# Altium footprint library Connector_Molex_Milligrid.PcbLib: 55 footprints (part 3 of 4)
Each footprint in its own frame and in the unit in brackets; x right, y up, seen from the top. Pads: shape width x height; smd on the part's side, far side on the other; paste and mask are expansions set on the pad; w line width, h text height; cw(c..) or ccw(c..) is an arc to the next point about the centre after c.
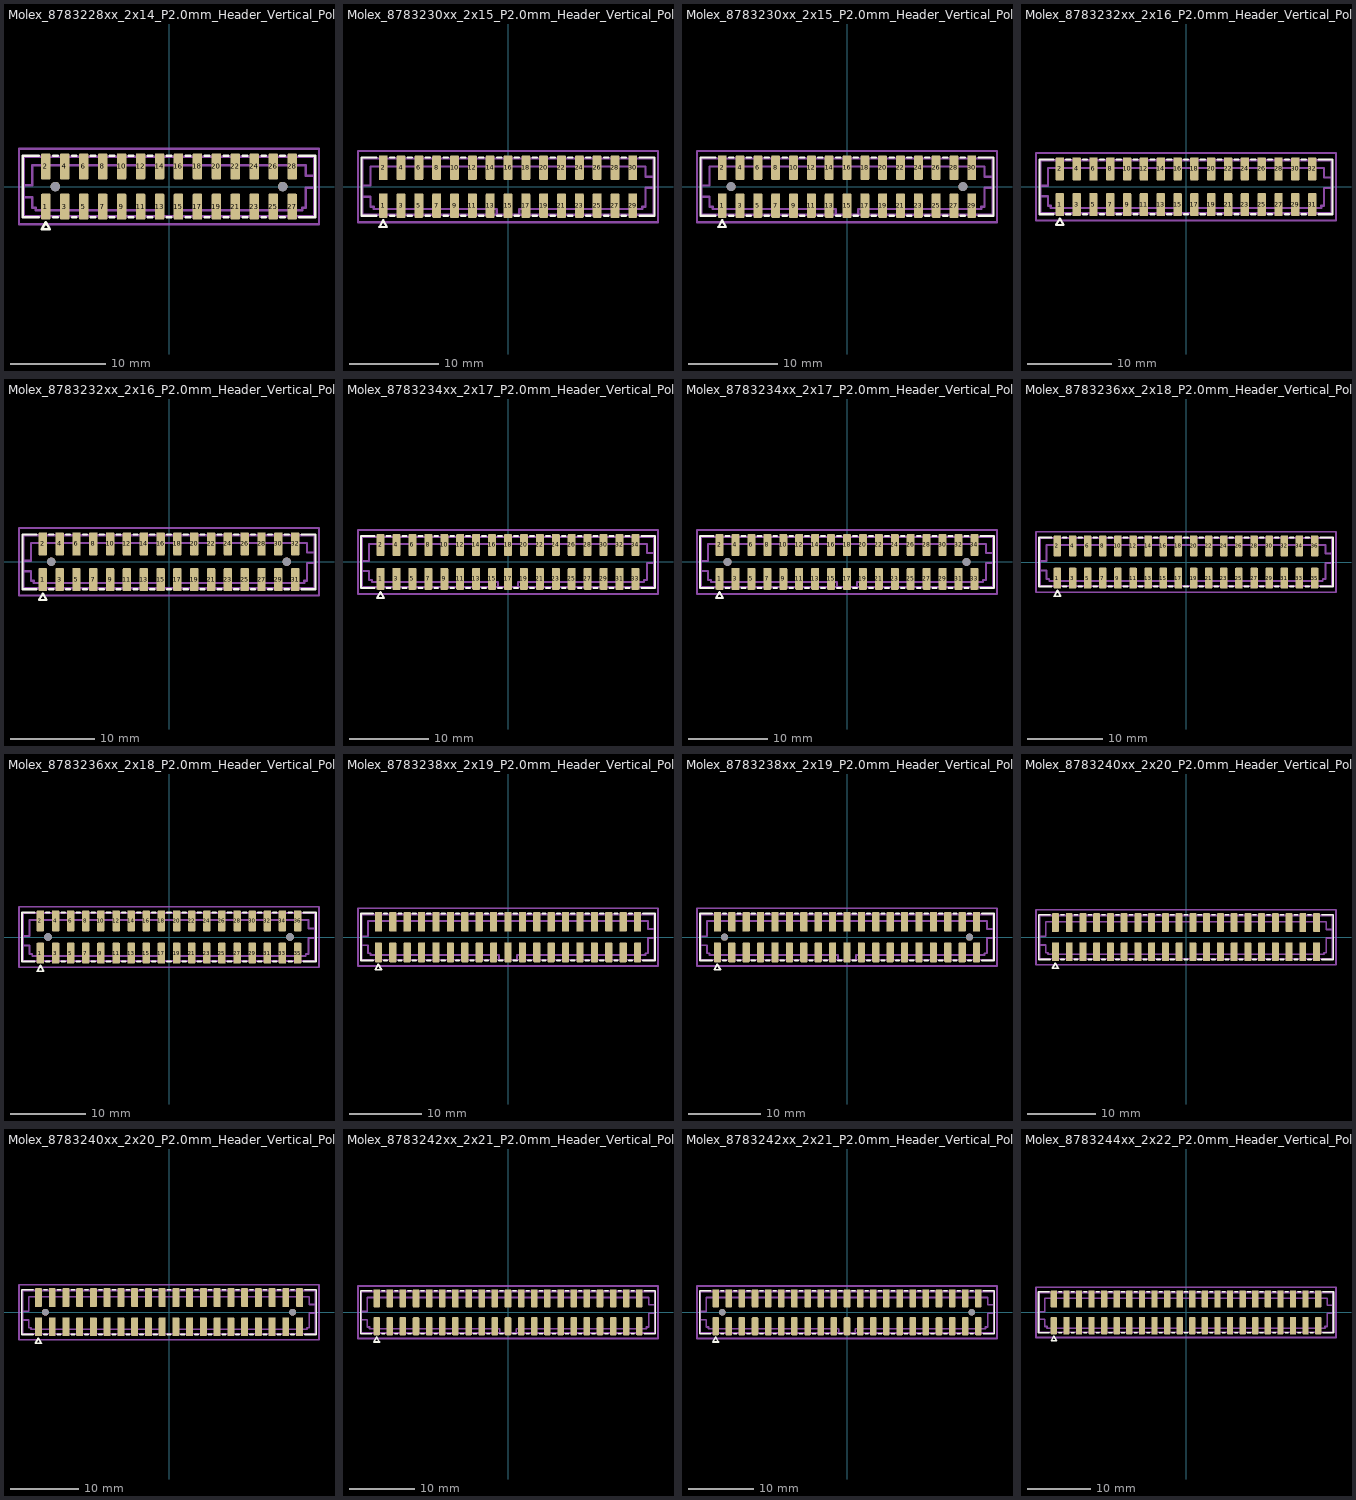
[diagram p2: the footprints below, top view; thin cyan lines are the x and y axes]

## Molex_8783228xx_2x14_P2.0mm_Header_Vertical_Polarized_MountingPegs [mm]
pads (30):
  rrect25% 1x2.75 smd: 1(-13,-2.125) 2(-13,2.125) 3(-11,-2.125) 4(-11,2.125) 5(-9,-2.125) 6(-9,2.125) 7(-7,-2.125) 8(-7,2.125) 9(-5,-2.125) 10(-5,2.125) 11(-3,-2.125) 12(-3,2.125) 13(-1,-2.125) 14(-1,2.125) 15(1,-2.125) 16(1,2.125) 17(3,-2.125) 18(3,2.125) 19(5,-2.125) 20(5,2.125) 21(7,-2.125) 22(7,2.125) 23(9,-2.125) 24(9,2.125) 25(11,-2.125) 26(11,2.125) 27(13,-2.125) 28(13,2.125)
  round 1 hole 1: Un1(-12,0) Un2(12,0)
F.SilkS:
  lines w0.254: -13.76,-3.26 -15.435,-3.26 -15.435,3.26 -13.76,3.26 ; -12.24,-3.26 -11.76,-3.26 ; -12.24,3.26 -11.76,3.26 ; -10.24,-3.26 -9.76,-3.26 ; -10.24,3.26 -9.76,3.26 ; -8.24,-3.26 -7.76,-3.26 ; -8.24,3.26 -7.76,3.26 ; -6.24,-3.26 -5.76,-3.26 ; -6.24,3.26 -5.76,3.26 ; -4.24,-3.26 -3.76,-3.26 ; -4.24,3.26 -3.76,3.26 ; -2.24,-3.26 -1.76,-3.26 ; -2.24,3.26 -1.76,3.26 ; -0.24,-3.26 0.24,-3.26 ; -0.24,3.26 0.24,3.26 ; 1.76,-3.26 2.24,-3.26 ; 1.76,3.26 2.24,3.26 ; 3.76,-3.26 4.24,-3.26 ; 3.76,3.26 4.24,3.26 ; 5.76,-3.26 6.24,-3.26 ; 5.76,3.26 6.24,3.26 ; 7.76,-3.26 8.24,-3.26 ; 7.76,3.26 8.24,3.26 ; 9.76,-3.26 10.24,-3.26 ; 9.76,3.26 10.24,3.26 ; 11.76,-3.26 12.24,-3.26 ; 11.76,3.26 12.24,3.26 ; 13.76,-3.26 15.435,-3.26 15.435,3.26 13.76,3.26 ; -13.433,-4.525 -12.567,-4.525 -13,-3.775 -13.433,-4.525
Top Assembly:
  lines w0.254: -15.325,-1.125 -14.425,-1.125 -14.425,-2.25 -14.075,-2.25 -14.075,-2.5 -1.25,-2.5 -1.25,-3.15 ; -15.325,0.125 -14.425,0.125 -14.425,2.25 14.425,2.25 14.425,1.125 15.325,1.125 ; -13.325,-3.15 -13,-2.5 -12.675,-3.15 ; 1.25,-3.15 1.25,-2.5 14.075,-2.5 14.075,-2.25 14.425,-2.25 14.425,-0.125 15.325,-0.125 ; -15.325,-3.15 15.325,-3.15 15.325,3.15 -15.325,3.15 -15.325,-3.15
  text "'.Designator'" at -4.047,-0.84 h1
Top Courtyard:
  lines w0.254: -15.83,-4 15.83,-4 15.83,4 -15.83,4 -15.83,-4
Top Designator:
  text ".Designator" at -7.618,-0.77 h1.52

## Molex_8783230xx_2x15_P2.0mm_Header_Vertical_Polarized [mm]
pads (30):
  rrect25% 1x2.75 smd: 1(-14,-2.125) 2(-14,2.125) 3(-12,-2.125) 4(-12,2.125) 5(-10,-2.125) 6(-10,2.125) 7(-8,-2.125) 8(-8,2.125) 9(-6,-2.125) 10(-6,2.125) 11(-4,-2.125) 12(-4,2.125) 13(-2,-2.125) 14(-2,2.125) 15(0,-2.125) 16(0,2.125) 17(2,-2.125) 18(2,2.125) 19(4,-2.125) 20(4,2.125) 21(6,-2.125) 22(6,2.125) 23(8,-2.125) 24(8,2.125) 25(10,-2.125) 26(10,2.125) 27(12,-2.125) 28(12,2.125) 29(14,-2.125) 30(14,2.125)
F.SilkS:
  lines w0.254: -14.76,-3.26 -16.435,-3.26 -16.435,3.26 -14.76,3.26 ; -13.24,-3.26 -12.76,-3.26 ; -13.24,3.26 -12.76,3.26 ; -11.24,-3.26 -10.76,-3.26 ; -11.24,3.26 -10.76,3.26 ; -9.24,-3.26 -8.76,-3.26 ; -9.24,3.26 -8.76,3.26 ; -7.24,-3.26 -6.76,-3.26 ; -7.24,3.26 -6.76,3.26 ; -5.24,-3.26 -4.76,-3.26 ; -5.24,3.26 -4.76,3.26 ; -3.24,-3.26 -2.76,-3.26 ; -3.24,3.26 -2.76,3.26 ; -1.24,-3.26 -0.76,-3.26 ; -1.24,3.26 -0.76,3.26 ; 0.76,-3.26 1.24,-3.26 ; 0.76,3.26 1.24,3.26 ; 2.76,-3.26 3.24,-3.26 ; 2.76,3.26 3.24,3.26 ; 4.76,-3.26 5.24,-3.26 ; 4.76,3.26 5.24,3.26 ; 6.76,-3.26 7.24,-3.26 ; 6.76,3.26 7.24,3.26 ; 8.76,-3.26 9.24,-3.26 ; 8.76,3.26 9.24,3.26 ; 10.76,-3.26 11.24,-3.26 ; 10.76,3.26 11.24,3.26 ; 12.76,-3.26 13.24,-3.26 ; 12.76,3.26 13.24,3.26 ; 14.76,-3.26 16.435,-3.26 16.435,3.26 14.76,3.26 ; -14.433,-4.525 -13.567,-4.525 -14,-3.775 -14.433,-4.525
Top Assembly:
  lines w0.254: -16.325,-1.125 -15.425,-1.125 -15.425,-2.25 -15.075,-2.25 -15.075,-2.5 -1.25,-2.5 -1.25,-3.15 ; -16.325,0.125 -15.425,0.125 -15.425,2.25 15.425,2.25 15.425,1.125 16.325,1.125 ; -14.325,-3.15 -14,-2.5 -13.675,-3.15 ; 1.25,-3.15 1.25,-2.5 15.075,-2.5 15.075,-2.25 15.425,-2.25 15.425,-0.125 16.325,-0.125 ; -16.325,-3.15 16.325,-3.15 16.325,3.15 -16.325,3.15 -16.325,-3.15
  text "'.Designator'" at -4.047,-0.84 h1
Top Courtyard:
  lines w0.254: -16.83,-4 16.83,-4 16.83,4 -16.83,4 -16.83,-4
Top Designator:
  text ".Designator" at -7.618,-0.77 h1.52

## Molex_8783230xx_2x15_P2.0mm_Header_Vertical_Polarized_MountingPegs [mm]
pads (32):
  rrect25% 1x2.75 smd: 1(-14,-2.125) 2(-14,2.125) 3(-12,-2.125) 4(-12,2.125) 5(-10,-2.125) 6(-10,2.125) 7(-8,-2.125) 8(-8,2.125) 9(-6,-2.125) 10(-6,2.125) 11(-4,-2.125) 12(-4,2.125) 13(-2,-2.125) 14(-2,2.125) 15(0,-2.125) 16(0,2.125) 17(2,-2.125) 18(2,2.125) 19(4,-2.125) 20(4,2.125) 21(6,-2.125) 22(6,2.125) 23(8,-2.125) 24(8,2.125) 25(10,-2.125) 26(10,2.125) 27(12,-2.125) 28(12,2.125) 29(14,-2.125) 30(14,2.125)
  round 1 hole 1: Un1(-13,0) Un2(13,0)
F.SilkS:
  lines w0.254: -14.76,-3.26 -16.435,-3.26 -16.435,3.26 -14.76,3.26 ; -13.24,-3.26 -12.76,-3.26 ; -13.24,3.26 -12.76,3.26 ; -11.24,-3.26 -10.76,-3.26 ; -11.24,3.26 -10.76,3.26 ; -9.24,-3.26 -8.76,-3.26 ; -9.24,3.26 -8.76,3.26 ; -7.24,-3.26 -6.76,-3.26 ; -7.24,3.26 -6.76,3.26 ; -5.24,-3.26 -4.76,-3.26 ; -5.24,3.26 -4.76,3.26 ; -3.24,-3.26 -2.76,-3.26 ; -3.24,3.26 -2.76,3.26 ; -1.24,-3.26 -0.76,-3.26 ; -1.24,3.26 -0.76,3.26 ; 0.76,-3.26 1.24,-3.26 ; 0.76,3.26 1.24,3.26 ; 2.76,-3.26 3.24,-3.26 ; 2.76,3.26 3.24,3.26 ; 4.76,-3.26 5.24,-3.26 ; 4.76,3.26 5.24,3.26 ; 6.76,-3.26 7.24,-3.26 ; 6.76,3.26 7.24,3.26 ; 8.76,-3.26 9.24,-3.26 ; 8.76,3.26 9.24,3.26 ; 10.76,-3.26 11.24,-3.26 ; 10.76,3.26 11.24,3.26 ; 12.76,-3.26 13.24,-3.26 ; 12.76,3.26 13.24,3.26 ; 14.76,-3.26 16.435,-3.26 16.435,3.26 14.76,3.26 ; -14.433,-4.525 -13.567,-4.525 -14,-3.775 -14.433,-4.525
Top Assembly:
  lines w0.254: -16.325,-1.125 -15.425,-1.125 -15.425,-2.25 -15.075,-2.25 -15.075,-2.5 -1.25,-2.5 -1.25,-3.15 ; -16.325,0.125 -15.425,0.125 -15.425,2.25 15.425,2.25 15.425,1.125 16.325,1.125 ; -14.325,-3.15 -14,-2.5 -13.675,-3.15 ; 1.25,-3.15 1.25,-2.5 15.075,-2.5 15.075,-2.25 15.425,-2.25 15.425,-0.125 16.325,-0.125 ; -16.325,-3.15 16.325,-3.15 16.325,3.15 -16.325,3.15 -16.325,-3.15
  text "'.Designator'" at -4.047,-0.84 h1
Top Courtyard:
  lines w0.254: -16.83,-4 16.83,-4 16.83,4 -16.83,4 -16.83,-4
Top Designator:
  text ".Designator" at -7.618,-0.77 h1.52

## Molex_8783232xx_2x16_P2.0mm_Header_Vertical_Polarized [mm]
pads (32):
  rrect25% 1x2.75 smd: 1(-15,-2.125) 2(-15,2.125) 3(-13,-2.125) 4(-13,2.125) 5(-11,-2.125) 6(-11,2.125) 7(-9,-2.125) 8(-9,2.125) 9(-7,-2.125) 10(-7,2.125) 11(-5,-2.125) 12(-5,2.125) 13(-3,-2.125) 14(-3,2.125) 15(-1,-2.125) 16(-1,2.125) 17(1,-2.125) 18(1,2.125) 19(3,-2.125) 20(3,2.125) 21(5,-2.125) 22(5,2.125) 23(7,-2.125) 24(7,2.125) 25(9,-2.125) 26(9,2.125) 27(11,-2.125) 28(11,2.125) 29(13,-2.125) 30(13,2.125) 31(15,-2.125) 32(15,2.125)
F.SilkS:
  lines w0.254: -15.76,-3.26 -17.435,-3.26 -17.435,3.26 -15.76,3.26 ; -14.24,-3.26 -13.76,-3.26 ; -14.24,3.26 -13.76,3.26 ; -12.24,-3.26 -11.76,-3.26 ; -12.24,3.26 -11.76,3.26 ; -10.24,-3.26 -9.76,-3.26 ; -10.24,3.26 -9.76,3.26 ; -8.24,-3.26 -7.76,-3.26 ; -8.24,3.26 -7.76,3.26 ; -6.24,-3.26 -5.76,-3.26 ; -6.24,3.26 -5.76,3.26 ; -4.24,-3.26 -3.76,-3.26 ; -4.24,3.26 -3.76,3.26 ; -2.24,-3.26 -1.76,-3.26 ; -2.24,3.26 -1.76,3.26 ; -0.24,-3.26 0.24,-3.26 ; -0.24,3.26 0.24,3.26 ; 1.76,-3.26 2.24,-3.26 ; 1.76,3.26 2.24,3.26 ; 3.76,-3.26 4.24,-3.26 ; 3.76,3.26 4.24,3.26 ; 5.76,-3.26 6.24,-3.26 ; 5.76,3.26 6.24,3.26 ; 7.76,-3.26 8.24,-3.26 ; 7.76,3.26 8.24,3.26 ; 9.76,-3.26 10.24,-3.26 ; 9.76,3.26 10.24,3.26 ; 11.76,-3.26 12.24,-3.26 ; 11.76,3.26 12.24,3.26 ; 13.76,-3.26 14.24,-3.26 ; 13.76,3.26 14.24,3.26 ; 15.76,-3.26 17.435,-3.26 17.435,3.26 15.76,3.26 ; -15.433,-4.525 -14.567,-4.525 -15,-3.775 -15.433,-4.525
Top Assembly:
  lines w0.254: -17.325,-1.125 -16.425,-1.125 -16.425,-2.25 -16.075,-2.25 -16.075,-2.5 -1.25,-2.5 -1.25,-3.15 ; -17.325,0.125 -16.425,0.125 -16.425,2.25 16.425,2.25 16.425,1.125 17.325,1.125 ; -15.325,-3.15 -15,-2.5 -14.675,-3.15 ; 1.25,-3.15 1.25,-2.5 16.075,-2.5 16.075,-2.25 16.425,-2.25 16.425,-0.125 17.325,-0.125 ; -17.325,-3.15 17.325,-3.15 17.325,3.15 -17.325,3.15 -17.325,-3.15
  text "'.Designator'" at -4.047,-0.84 h1
Top Courtyard:
  lines w0.254: -17.83,-4 17.83,-4 17.83,4 -17.83,4 -17.83,-4
Top Designator:
  text ".Designator" at -7.618,-0.77 h1.52

## Molex_8783232xx_2x16_P2.0mm_Header_Vertical_Polarized_MountingPegs [mm]
pads (34):
  rrect25% 1x2.75 smd: 1(-15,-2.125) 2(-15,2.125) 3(-13,-2.125) 4(-13,2.125) 5(-11,-2.125) 6(-11,2.125) 7(-9,-2.125) 8(-9,2.125) 9(-7,-2.125) 10(-7,2.125) 11(-5,-2.125) 12(-5,2.125) 13(-3,-2.125) 14(-3,2.125) 15(-1,-2.125) 16(-1,2.125) 17(1,-2.125) 18(1,2.125) 19(3,-2.125) 20(3,2.125) 21(5,-2.125) 22(5,2.125) 23(7,-2.125) 24(7,2.125) 25(9,-2.125) 26(9,2.125) 27(11,-2.125) 28(11,2.125) 29(13,-2.125) 30(13,2.125) 31(15,-2.125) 32(15,2.125)
  round 1 hole 1: Un1(-14,0) Un2(14,0)
F.SilkS:
  lines w0.254: -15.76,-3.26 -17.435,-3.26 -17.435,3.26 -15.76,3.26 ; -14.24,-3.26 -13.76,-3.26 ; -14.24,3.26 -13.76,3.26 ; -12.24,-3.26 -11.76,-3.26 ; -12.24,3.26 -11.76,3.26 ; -10.24,-3.26 -9.76,-3.26 ; -10.24,3.26 -9.76,3.26 ; -8.24,-3.26 -7.76,-3.26 ; -8.24,3.26 -7.76,3.26 ; -6.24,-3.26 -5.76,-3.26 ; -6.24,3.26 -5.76,3.26 ; -4.24,-3.26 -3.76,-3.26 ; -4.24,3.26 -3.76,3.26 ; -2.24,-3.26 -1.76,-3.26 ; -2.24,3.26 -1.76,3.26 ; -0.24,-3.26 0.24,-3.26 ; -0.24,3.26 0.24,3.26 ; 1.76,-3.26 2.24,-3.26 ; 1.76,3.26 2.24,3.26 ; 3.76,-3.26 4.24,-3.26 ; 3.76,3.26 4.24,3.26 ; 5.76,-3.26 6.24,-3.26 ; 5.76,3.26 6.24,3.26 ; 7.76,-3.26 8.24,-3.26 ; 7.76,3.26 8.24,3.26 ; 9.76,-3.26 10.24,-3.26 ; 9.76,3.26 10.24,3.26 ; 11.76,-3.26 12.24,-3.26 ; 11.76,3.26 12.24,3.26 ; 13.76,-3.26 14.24,-3.26 ; 13.76,3.26 14.24,3.26 ; 15.76,-3.26 17.435,-3.26 17.435,3.26 15.76,3.26 ; -15.433,-4.525 -14.567,-4.525 -15,-3.775 -15.433,-4.525
Top Assembly:
  lines w0.254: -17.325,-1.125 -16.425,-1.125 -16.425,-2.25 -16.075,-2.25 -16.075,-2.5 -1.25,-2.5 -1.25,-3.15 ; -17.325,0.125 -16.425,0.125 -16.425,2.25 16.425,2.25 16.425,1.125 17.325,1.125 ; -15.325,-3.15 -15,-2.5 -14.675,-3.15 ; 1.25,-3.15 1.25,-2.5 16.075,-2.5 16.075,-2.25 16.425,-2.25 16.425,-0.125 17.325,-0.125 ; -17.325,-3.15 17.325,-3.15 17.325,3.15 -17.325,3.15 -17.325,-3.15
  text "'.Designator'" at -4.047,-0.84 h1
Top Courtyard:
  lines w0.254: -17.83,-4 17.83,-4 17.83,4 -17.83,4 -17.83,-4
Top Designator:
  text ".Designator" at -7.618,-0.77 h1.52

## Molex_8783234xx_2x17_P2.0mm_Header_Vertical_Polarized [mm]
pads (34):
  rrect25% 1x2.75 smd: 1(-16,-2.125) 2(-16,2.125) 3(-14,-2.125) 4(-14,2.125) 5(-12,-2.125) 6(-12,2.125) 7(-10,-2.125) 8(-10,2.125) 9(-8,-2.125) 10(-8,2.125) 11(-6,-2.125) 12(-6,2.125) 13(-4,-2.125) 14(-4,2.125) 15(-2,-2.125) 16(-2,2.125) 17(0,-2.125) 18(0,2.125) 19(2,-2.125) 20(2,2.125) 21(4,-2.125) 22(4,2.125) 23(6,-2.125) 24(6,2.125) 25(8,-2.125) 26(8,2.125) 27(10,-2.125) 28(10,2.125) 29(12,-2.125) 30(12,2.125) 31(14,-2.125) 32(14,2.125) 33(16,-2.125) 34(16,2.125)
F.SilkS:
  lines w0.254: -16.76,-3.26 -18.435,-3.26 -18.435,3.26 -16.76,3.26 ; -15.24,-3.26 -14.76,-3.26 ; -15.24,3.26 -14.76,3.26 ; -13.24,-3.26 -12.76,-3.26 ; -13.24,3.26 -12.76,3.26 ; -11.24,-3.26 -10.76,-3.26 ; -11.24,3.26 -10.76,3.26 ; -9.24,-3.26 -8.76,-3.26 ; -9.24,3.26 -8.76,3.26 ; -7.24,-3.26 -6.76,-3.26 ; -7.24,3.26 -6.76,3.26 ; -5.24,-3.26 -4.76,-3.26 ; -5.24,3.26 -4.76,3.26 ; -3.24,-3.26 -2.76,-3.26 ; -3.24,3.26 -2.76,3.26 ; -1.24,-3.26 -0.76,-3.26 ; -1.24,3.26 -0.76,3.26 ; 0.76,-3.26 1.24,-3.26 ; 0.76,3.26 1.24,3.26 ; 2.76,-3.26 3.24,-3.26 ; 2.76,3.26 3.24,3.26 ; 4.76,-3.26 5.24,-3.26 ; 4.76,3.26 5.24,3.26 ; 6.76,-3.26 7.24,-3.26 ; 6.76,3.26 7.24,3.26 ; 8.76,-3.26 9.24,-3.26 ; 8.76,3.26 9.24,3.26 ; 10.76,-3.26 11.24,-3.26 ; 10.76,3.26 11.24,3.26 ; 12.76,-3.26 13.24,-3.26 ; 12.76,3.26 13.24,3.26 ; 14.76,-3.26 15.24,-3.26 ; 14.76,3.26 15.24,3.26 ; 16.76,-3.26 18.435,-3.26 18.435,3.26 16.76,3.26 ; -16.433,-4.525 -15.567,-4.525 -16,-3.775 -16.433,-4.525
Top Assembly:
  lines w0.254: -18.325,-1.125 -17.425,-1.125 -17.425,-2.25 -17.075,-2.25 -17.075,-2.5 -1.25,-2.5 -1.25,-3.15 ; -18.325,0.125 -17.425,0.125 -17.425,2.25 17.425,2.25 17.425,1.125 18.325,1.125 ; -16.325,-3.15 -16,-2.5 -15.675,-3.15 ; 1.25,-3.15 1.25,-2.5 17.075,-2.5 17.075,-2.25 17.425,-2.25 17.425,-0.125 18.325,-0.125 ; -18.325,-3.15 18.325,-3.15 18.325,3.15 -18.325,3.15 -18.325,-3.15
  text "'.Designator'" at -4.047,-0.84 h1
Top Courtyard:
  lines w0.254: -18.83,-4 18.83,-4 18.83,4 -18.83,4 -18.83,-4
Top Designator:
  text ".Designator" at -7.618,-0.77 h1.52

## Molex_8783234xx_2x17_P2.0mm_Header_Vertical_Polarized_MountingPegs [mm]
pads (36):
  rrect25% 1x2.75 smd: 1(-16,-2.125) 2(-16,2.125) 3(-14,-2.125) 4(-14,2.125) 5(-12,-2.125) 6(-12,2.125) 7(-10,-2.125) 8(-10,2.125) 9(-8,-2.125) 10(-8,2.125) 11(-6,-2.125) 12(-6,2.125) 13(-4,-2.125) 14(-4,2.125) 15(-2,-2.125) 16(-2,2.125) 17(0,-2.125) 18(0,2.125) 19(2,-2.125) 20(2,2.125) 21(4,-2.125) 22(4,2.125) 23(6,-2.125) 24(6,2.125) 25(8,-2.125) 26(8,2.125) 27(10,-2.125) 28(10,2.125) 29(12,-2.125) 30(12,2.125) 31(14,-2.125) 32(14,2.125) 33(16,-2.125) 34(16,2.125)
  round 1 hole 1: Un1(-15,0) Un2(15,0)
F.SilkS:
  lines w0.254: -16.76,-3.26 -18.435,-3.26 -18.435,3.26 -16.76,3.26 ; -15.24,-3.26 -14.76,-3.26 ; -15.24,3.26 -14.76,3.26 ; -13.24,-3.26 -12.76,-3.26 ; -13.24,3.26 -12.76,3.26 ; -11.24,-3.26 -10.76,-3.26 ; -11.24,3.26 -10.76,3.26 ; -9.24,-3.26 -8.76,-3.26 ; -9.24,3.26 -8.76,3.26 ; -7.24,-3.26 -6.76,-3.26 ; -7.24,3.26 -6.76,3.26 ; -5.24,-3.26 -4.76,-3.26 ; -5.24,3.26 -4.76,3.26 ; -3.24,-3.26 -2.76,-3.26 ; -3.24,3.26 -2.76,3.26 ; -1.24,-3.26 -0.76,-3.26 ; -1.24,3.26 -0.76,3.26 ; 0.76,-3.26 1.24,-3.26 ; 0.76,3.26 1.24,3.26 ; 2.76,-3.26 3.24,-3.26 ; 2.76,3.26 3.24,3.26 ; 4.76,-3.26 5.24,-3.26 ; 4.76,3.26 5.24,3.26 ; 6.76,-3.26 7.24,-3.26 ; 6.76,3.26 7.24,3.26 ; 8.76,-3.26 9.24,-3.26 ; 8.76,3.26 9.24,3.26 ; 10.76,-3.26 11.24,-3.26 ; 10.76,3.26 11.24,3.26 ; 12.76,-3.26 13.24,-3.26 ; 12.76,3.26 13.24,3.26 ; 14.76,-3.26 15.24,-3.26 ; 14.76,3.26 15.24,3.26 ; 16.76,-3.26 18.435,-3.26 18.435,3.26 16.76,3.26 ; -16.433,-4.525 -15.567,-4.525 -16,-3.775 -16.433,-4.525
Top Assembly:
  lines w0.254: -18.325,-1.125 -17.425,-1.125 -17.425,-2.25 -17.075,-2.25 -17.075,-2.5 -1.25,-2.5 -1.25,-3.15 ; -18.325,0.125 -17.425,0.125 -17.425,2.25 17.425,2.25 17.425,1.125 18.325,1.125 ; -16.325,-3.15 -16,-2.5 -15.675,-3.15 ; 1.25,-3.15 1.25,-2.5 17.075,-2.5 17.075,-2.25 17.425,-2.25 17.425,-0.125 18.325,-0.125 ; -18.325,-3.15 18.325,-3.15 18.325,3.15 -18.325,3.15 -18.325,-3.15
  text "'.Designator'" at -4.047,-0.84 h1
Top Courtyard:
  lines w0.254: -18.83,-4 18.83,-4 18.83,4 -18.83,4 -18.83,-4
Top Designator:
  text ".Designator" at -7.618,-0.77 h1.52

## Molex_8783236xx_2x18_P2.0mm_Header_Vertical_Polarized [mm]
pads (36):
  rrect25% 1x2.75 smd: 1(-17,-2.125) 2(-17,2.125) 3(-15,-2.125) 4(-15,2.125) 5(-13,-2.125) 6(-13,2.125) 7(-11,-2.125) 8(-11,2.125) 9(-9,-2.125) 10(-9,2.125) 11(-7,-2.125) 12(-7,2.125) 13(-5,-2.125) 14(-5,2.125) 15(-3,-2.125) 16(-3,2.125) 17(-1,-2.125) 18(-1,2.125) 19(1,-2.125) 20(1,2.125) 21(3,-2.125) 22(3,2.125) 23(5,-2.125) 24(5,2.125) 25(7,-2.125) 26(7,2.125) 27(9,-2.125) 28(9,2.125) 29(11,-2.125) 30(11,2.125) 31(13,-2.125) 32(13,2.125) 33(15,-2.125) 34(15,2.125) 35(17,-2.125) 36(17,2.125)
F.SilkS:
  lines w0.254: -17.76,-3.26 -19.435,-3.26 -19.435,3.26 -17.76,3.26 ; -16.24,-3.26 -15.76,-3.26 ; -16.24,3.26 -15.76,3.26 ; -14.24,-3.26 -13.76,-3.26 ; -14.24,3.26 -13.76,3.26 ; -12.24,-3.26 -11.76,-3.26 ; -12.24,3.26 -11.76,3.26 ; -10.24,-3.26 -9.76,-3.26 ; -10.24,3.26 -9.76,3.26 ; -8.24,-3.26 -7.76,-3.26 ; -8.24,3.26 -7.76,3.26 ; -6.24,-3.26 -5.76,-3.26 ; -6.24,3.26 -5.76,3.26 ; -4.24,-3.26 -3.76,-3.26 ; -4.24,3.26 -3.76,3.26 ; -2.24,-3.26 -1.76,-3.26 ; -2.24,3.26 -1.76,3.26 ; -0.24,-3.26 0.24,-3.26 ; -0.24,3.26 0.24,3.26 ; 1.76,-3.26 2.24,-3.26 ; 1.76,3.26 2.24,3.26 ; 3.76,-3.26 4.24,-3.26 ; 3.76,3.26 4.24,3.26 ; 5.76,-3.26 6.24,-3.26 ; 5.76,3.26 6.24,3.26 ; 7.76,-3.26 8.24,-3.26 ; 7.76,3.26 8.24,3.26 ; 9.76,-3.26 10.24,-3.26 ; 9.76,3.26 10.24,3.26 ; 11.76,-3.26 12.24,-3.26 ; 11.76,3.26 12.24,3.26 ; 13.76,-3.26 14.24,-3.26 ; 13.76,3.26 14.24,3.26 ; 15.76,-3.26 16.24,-3.26 ; 15.76,3.26 16.24,3.26 ; 17.76,-3.26 19.435,-3.26 19.435,3.26 17.76,3.26 ; -17.433,-4.525 -16.567,-4.525 -17,-3.775 -17.433,-4.525
Top Assembly:
  lines w0.254: -19.325,-1.125 -18.425,-1.125 -18.425,-2.25 -18.075,-2.25 -18.075,-2.5 -1.25,-2.5 -1.25,-3.15 ; -19.325,0.125 -18.425,0.125 -18.425,2.25 18.425,2.25 18.425,1.125 19.325,1.125 ; -17.325,-3.15 -17,-2.5 -16.675,-3.15 ; 1.25,-3.15 1.25,-2.5 18.075,-2.5 18.075,-2.25 18.425,-2.25 18.425,-0.125 19.325,-0.125 ; -19.325,-3.15 19.325,-3.15 19.325,3.15 -19.325,3.15 -19.325,-3.15
  text "'.Designator'" at -4.047,-0.84 h1
Top Courtyard:
  lines w0.254: -19.83,-4 19.83,-4 19.83,4 -19.83,4 -19.83,-4
Top Designator:
  text ".Designator" at -7.618,-0.77 h1.52

## Molex_8783236xx_2x18_P2.0mm_Header_Vertical_Polarized_MountingPegs [mm]
pads (38):
  rrect25% 1x2.75 smd: 1(-17,-2.125) 2(-17,2.125) 3(-15,-2.125) 4(-15,2.125) 5(-13,-2.125) 6(-13,2.125) 7(-11,-2.125) 8(-11,2.125) 9(-9,-2.125) 10(-9,2.125) 11(-7,-2.125) 12(-7,2.125) 13(-5,-2.125) 14(-5,2.125) 15(-3,-2.125) 16(-3,2.125) 17(-1,-2.125) 18(-1,2.125) 19(1,-2.125) 20(1,2.125) 21(3,-2.125) 22(3,2.125) 23(5,-2.125) 24(5,2.125) 25(7,-2.125) 26(7,2.125) 27(9,-2.125) 28(9,2.125) 29(11,-2.125) 30(11,2.125) 31(13,-2.125) 32(13,2.125) 33(15,-2.125) 34(15,2.125) 35(17,-2.125) 36(17,2.125)
  round 1 hole 1: Un1(-16,0) Un2(16,0)
F.SilkS:
  lines w0.254: -17.76,-3.26 -19.435,-3.26 -19.435,3.26 -17.76,3.26 ; -16.24,-3.26 -15.76,-3.26 ; -16.24,3.26 -15.76,3.26 ; -14.24,-3.26 -13.76,-3.26 ; -14.24,3.26 -13.76,3.26 ; -12.24,-3.26 -11.76,-3.26 ; -12.24,3.26 -11.76,3.26 ; -10.24,-3.26 -9.76,-3.26 ; -10.24,3.26 -9.76,3.26 ; -8.24,-3.26 -7.76,-3.26 ; -8.24,3.26 -7.76,3.26 ; -6.24,-3.26 -5.76,-3.26 ; -6.24,3.26 -5.76,3.26 ; -4.24,-3.26 -3.76,-3.26 ; -4.24,3.26 -3.76,3.26 ; -2.24,-3.26 -1.76,-3.26 ; -2.24,3.26 -1.76,3.26 ; -0.24,-3.26 0.24,-3.26 ; -0.24,3.26 0.24,3.26 ; 1.76,-3.26 2.24,-3.26 ; 1.76,3.26 2.24,3.26 ; 3.76,-3.26 4.24,-3.26 ; 3.76,3.26 4.24,3.26 ; 5.76,-3.26 6.24,-3.26 ; 5.76,3.26 6.24,3.26 ; 7.76,-3.26 8.24,-3.26 ; 7.76,3.26 8.24,3.26 ; 9.76,-3.26 10.24,-3.26 ; 9.76,3.26 10.24,3.26 ; 11.76,-3.26 12.24,-3.26 ; 11.76,3.26 12.24,3.26 ; 13.76,-3.26 14.24,-3.26 ; 13.76,3.26 14.24,3.26 ; 15.76,-3.26 16.24,-3.26 ; 15.76,3.26 16.24,3.26 ; 17.76,-3.26 19.435,-3.26 19.435,3.26 17.76,3.26 ; -17.433,-4.525 -16.567,-4.525 -17,-3.775 -17.433,-4.525
Top Assembly:
  lines w0.254: -19.325,-1.125 -18.425,-1.125 -18.425,-2.25 -18.075,-2.25 -18.075,-2.5 -1.25,-2.5 -1.25,-3.15 ; -19.325,0.125 -18.425,0.125 -18.425,2.25 18.425,2.25 18.425,1.125 19.325,1.125 ; -17.325,-3.15 -17,-2.5 -16.675,-3.15 ; 1.25,-3.15 1.25,-2.5 18.075,-2.5 18.075,-2.25 18.425,-2.25 18.425,-0.125 19.325,-0.125 ; -19.325,-3.15 19.325,-3.15 19.325,3.15 -19.325,3.15 -19.325,-3.15
  text "'.Designator'" at -4.047,-0.84 h1
Top Courtyard:
  lines w0.254: -19.83,-4 19.83,-4 19.83,4 -19.83,4 -19.83,-4
Top Designator:
  text ".Designator" at -7.618,-0.77 h1.52

## Molex_8783238xx_2x19_P2.0mm_Header_Vertical_Polarized [mm]
pads (38):
  rrect25% 1x2.75 smd: 1(-18,-2.125) 2(-18,2.125) 3(-16,-2.125) 4(-16,2.125) 5(-14,-2.125) 6(-14,2.125) 7(-12,-2.125) 8(-12,2.125) 9(-10,-2.125) 10(-10,2.125) 11(-8,-2.125) 12(-8,2.125) 13(-6,-2.125) 14(-6,2.125) 15(-4,-2.125) 16(-4,2.125) 17(-2,-2.125) 18(-2,2.125) 19(0,-2.125) 20(0,2.125) 21(2,-2.125) 22(2,2.125) 23(4,-2.125) 24(4,2.125) 25(6,-2.125) 26(6,2.125) 27(8,-2.125) 28(8,2.125) 29(10,-2.125) 30(10,2.125) 31(12,-2.125) 32(12,2.125) 33(14,-2.125) 34(14,2.125) 35(16,-2.125) 36(16,2.125) 37(18,-2.125) 38(18,2.125)
F.SilkS:
  lines w0.254: -18.76,-3.26 -20.435,-3.26 -20.435,3.26 -18.76,3.26 ; -17.24,-3.26 -16.76,-3.26 ; -17.24,3.26 -16.76,3.26 ; -15.24,-3.26 -14.76,-3.26 ; -15.24,3.26 -14.76,3.26 ; -13.24,-3.26 -12.76,-3.26 ; -13.24,3.26 -12.76,3.26 ; -11.24,-3.26 -10.76,-3.26 ; -11.24,3.26 -10.76,3.26 ; -9.24,-3.26 -8.76,-3.26 ; -9.24,3.26 -8.76,3.26 ; -7.24,-3.26 -6.76,-3.26 ; -7.24,3.26 -6.76,3.26 ; -5.24,-3.26 -4.76,-3.26 ; -5.24,3.26 -4.76,3.26 ; -3.24,-3.26 -2.76,-3.26 ; -3.24,3.26 -2.76,3.26 ; -1.24,-3.26 -0.76,-3.26 ; -1.24,3.26 -0.76,3.26 ; 0.76,-3.26 1.24,-3.26 ; 0.76,3.26 1.24,3.26 ; 2.76,-3.26 3.24,-3.26 ; 2.76,3.26 3.24,3.26 ; 4.76,-3.26 5.24,-3.26 ; 4.76,3.26 5.24,3.26 ; 6.76,-3.26 7.24,-3.26 ; 6.76,3.26 7.24,3.26 ; 8.76,-3.26 9.24,-3.26 ; 8.76,3.26 9.24,3.26 ; 10.76,-3.26 11.24,-3.26 ; 10.76,3.26 11.24,3.26 ; 12.76,-3.26 13.24,-3.26 ; 12.76,3.26 13.24,3.26 ; 14.76,-3.26 15.24,-3.26 ; 14.76,3.26 15.24,3.26 ; 16.76,-3.26 17.24,-3.26 ; 16.76,3.26 17.24,3.26 ; 18.76,-3.26 20.435,-3.26 20.435,3.26 18.76,3.26 ; -18.433,-4.525 -17.567,-4.525 -18,-3.775 -18.433,-4.525
Top Assembly:
  lines w0.254: -20.325,-1.125 -19.425,-1.125 -19.425,-2.25 -19.075,-2.25 -19.075,-2.5 -1.25,-2.5 -1.25,-3.15 ; -20.325,0.125 -19.425,0.125 -19.425,2.25 19.425,2.25 19.425,1.125 20.325,1.125 ; -18.325,-3.15 -18,-2.5 -17.675,-3.15 ; 1.25,-3.15 1.25,-2.5 19.075,-2.5 19.075,-2.25 19.425,-2.25 19.425,-0.125 20.325,-0.125 ; -20.325,-3.15 20.325,-3.15 20.325,3.15 -20.325,3.15 -20.325,-3.15
  text "'.Designator'" at -4.047,-0.84 h1
Top Courtyard:
  lines w0.254: -20.83,-4 20.83,-4 20.83,4 -20.83,4 -20.83,-4
Top Designator:
  text ".Designator" at -7.618,-0.77 h1.52

## Molex_8783238xx_2x19_P2.0mm_Header_Vertical_Polarized_MountingPegs [mm]
pads (40):
  rrect25% 1x2.75 smd: 1(-18,-2.125) 2(-18,2.125) 3(-16,-2.125) 4(-16,2.125) 5(-14,-2.125) 6(-14,2.125) 7(-12,-2.125) 8(-12,2.125) 9(-10,-2.125) 10(-10,2.125) 11(-8,-2.125) 12(-8,2.125) 13(-6,-2.125) 14(-6,2.125) 15(-4,-2.125) 16(-4,2.125) 17(-2,-2.125) 18(-2,2.125) 19(0,-2.125) 20(0,2.125) 21(2,-2.125) 22(2,2.125) 23(4,-2.125) 24(4,2.125) 25(6,-2.125) 26(6,2.125) 27(8,-2.125) 28(8,2.125) 29(10,-2.125) 30(10,2.125) 31(12,-2.125) 32(12,2.125) 33(14,-2.125) 34(14,2.125) 35(16,-2.125) 36(16,2.125) 37(18,-2.125) 38(18,2.125)
  round 1 hole 1: Un1(-17,0) Un2(17,0)
F.SilkS:
  lines w0.254: -18.76,-3.26 -20.435,-3.26 -20.435,3.26 -18.76,3.26 ; -17.24,-3.26 -16.76,-3.26 ; -17.24,3.26 -16.76,3.26 ; -15.24,-3.26 -14.76,-3.26 ; -15.24,3.26 -14.76,3.26 ; -13.24,-3.26 -12.76,-3.26 ; -13.24,3.26 -12.76,3.26 ; -11.24,-3.26 -10.76,-3.26 ; -11.24,3.26 -10.76,3.26 ; -9.24,-3.26 -8.76,-3.26 ; -9.24,3.26 -8.76,3.26 ; -7.24,-3.26 -6.76,-3.26 ; -7.24,3.26 -6.76,3.26 ; -5.24,-3.26 -4.76,-3.26 ; -5.24,3.26 -4.76,3.26 ; -3.24,-3.26 -2.76,-3.26 ; -3.24,3.26 -2.76,3.26 ; -1.24,-3.26 -0.76,-3.26 ; -1.24,3.26 -0.76,3.26 ; 0.76,-3.26 1.24,-3.26 ; 0.76,3.26 1.24,3.26 ; 2.76,-3.26 3.24,-3.26 ; 2.76,3.26 3.24,3.26 ; 4.76,-3.26 5.24,-3.26 ; 4.76,3.26 5.24,3.26 ; 6.76,-3.26 7.24,-3.26 ; 6.76,3.26 7.24,3.26 ; 8.76,-3.26 9.24,-3.26 ; 8.76,3.26 9.24,3.26 ; 10.76,-3.26 11.24,-3.26 ; 10.76,3.26 11.24,3.26 ; 12.76,-3.26 13.24,-3.26 ; 12.76,3.26 13.24,3.26 ; 14.76,-3.26 15.24,-3.26 ; 14.76,3.26 15.24,3.26 ; 16.76,-3.26 17.24,-3.26 ; 16.76,3.26 17.24,3.26 ; 18.76,-3.26 20.435,-3.26 20.435,3.26 18.76,3.26 ; -18.433,-4.525 -17.567,-4.525 -18,-3.775 -18.433,-4.525
Top Assembly:
  lines w0.254: -20.325,-1.125 -19.425,-1.125 -19.425,-2.25 -19.075,-2.25 -19.075,-2.5 -1.25,-2.5 -1.25,-3.15 ; -20.325,0.125 -19.425,0.125 -19.425,2.25 19.425,2.25 19.425,1.125 20.325,1.125 ; -18.325,-3.15 -18,-2.5 -17.675,-3.15 ; 1.25,-3.15 1.25,-2.5 19.075,-2.5 19.075,-2.25 19.425,-2.25 19.425,-0.125 20.325,-0.125 ; -20.325,-3.15 20.325,-3.15 20.325,3.15 -20.325,3.15 -20.325,-3.15
  text "'.Designator'" at -4.047,-0.84 h1
Top Courtyard:
  lines w0.254: -20.83,-4 20.83,-4 20.83,4 -20.83,4 -20.83,-4
Top Designator:
  text ".Designator" at -7.618,-0.77 h1.52

## Molex_8783240xx_2x20_P2.0mm_Header_Vertical_Polarized [mm]
pads (40):
  rrect25% 1x2.75 smd: 1(-19,-2.125) 2(-19,2.125) 3(-17,-2.125) 4(-17,2.125) 5(-15,-2.125) 6(-15,2.125) 7(-13,-2.125) 8(-13,2.125) 9(-11,-2.125) 10(-11,2.125) 11(-9,-2.125) 12(-9,2.125) 13(-7,-2.125) 14(-7,2.125) 15(-5,-2.125) 16(-5,2.125) 17(-3,-2.125) 18(-3,2.125) 19(-1,-2.125) 20(-1,2.125) 21(1,-2.125) 22(1,2.125) 23(3,-2.125) 24(3,2.125) 25(5,-2.125) 26(5,2.125) 27(7,-2.125) 28(7,2.125) 29(9,-2.125) 30(9,2.125) 31(11,-2.125) 32(11,2.125) 33(13,-2.125) 34(13,2.125) 35(15,-2.125) 36(15,2.125) 37(17,-2.125) 38(17,2.125) 39(19,-2.125) 40(19,2.125)
F.SilkS:
  lines w0.254: -19.76,-3.26 -21.435,-3.26 -21.435,3.26 -19.76,3.26 ; -18.24,-3.26 -17.76,-3.26 ; -18.24,3.26 -17.76,3.26 ; -16.24,-3.26 -15.76,-3.26 ; -16.24,3.26 -15.76,3.26 ; -14.24,-3.26 -13.76,-3.26 ; -14.24,3.26 -13.76,3.26 ; -12.24,-3.26 -11.76,-3.26 ; -12.24,3.26 -11.76,3.26 ; -10.24,-3.26 -9.76,-3.26 ; -10.24,3.26 -9.76,3.26 ; -8.24,-3.26 -7.76,-3.26 ; -8.24,3.26 -7.76,3.26 ; -6.24,-3.26 -5.76,-3.26 ; -6.24,3.26 -5.76,3.26 ; -4.24,-3.26 -3.76,-3.26 ; -4.24,3.26 -3.76,3.26 ; -2.24,-3.26 -1.76,-3.26 ; -2.24,3.26 -1.76,3.26 ; -0.24,-3.26 0.24,-3.26 ; -0.24,3.26 0.24,3.26 ; 1.76,-3.26 2.24,-3.26 ; 1.76,3.26 2.24,3.26 ; 3.76,-3.26 4.24,-3.26 ; 3.76,3.26 4.24,3.26 ; 5.76,-3.26 6.24,-3.26 ; 5.76,3.26 6.24,3.26 ; 7.76,-3.26 8.24,-3.26 ; 7.76,3.26 8.24,3.26 ; 9.76,-3.26 10.24,-3.26 ; 9.76,3.26 10.24,3.26 ; 11.76,-3.26 12.24,-3.26 ; 11.76,3.26 12.24,3.26 ; 13.76,-3.26 14.24,-3.26 ; 13.76,3.26 14.24,3.26 ; 15.76,-3.26 16.24,-3.26 ; 15.76,3.26 16.24,3.26 ; 17.76,-3.26 18.24,-3.26 ; 17.76,3.26 18.24,3.26 ; 19.76,-3.26 21.435,-3.26 21.435,3.26 19.76,3.26 ; -19.433,-4.525 -18.567,-4.525 -19,-3.775 -19.433,-4.525
Top Assembly:
  lines w0.254: -21.325,-1.125 -20.425,-1.125 -20.425,-2.25 -20.075,-2.25 -20.075,-2.5 -1.25,-2.5 -1.25,-3.15 ; -21.325,0.125 -20.425,0.125 -20.425,2.25 20.425,2.25 20.425,1.125 21.325,1.125 ; -19.325,-3.15 -19,-2.5 -18.675,-3.15 ; 1.25,-3.15 1.25,-2.5 20.075,-2.5 20.075,-2.25 20.425,-2.25 20.425,-0.125 21.325,-0.125 ; -21.325,-3.15 21.325,-3.15 21.325,3.15 -21.325,3.15 -21.325,-3.15
  text "'.Designator'" at -4.047,-0.84 h1
Top Courtyard:
  lines w0.254: -21.83,-4 21.83,-4 21.83,4 -21.83,4 -21.83,-4
Top Designator:
  text ".Designator" at -7.618,-0.77 h1.52

## Molex_8783240xx_2x20_P2.0mm_Header_Vertical_Polarized_MountingPegs [mm]
pads (42):
  rrect25% 1x2.75 smd: 1(-19,-2.125) 2(-19,2.125) 3(-17,-2.125) 4(-17,2.125) 5(-15,-2.125) 6(-15,2.125) 7(-13,-2.125) 8(-13,2.125) 9(-11,-2.125) 10(-11,2.125) 11(-9,-2.125) 12(-9,2.125) 13(-7,-2.125) 14(-7,2.125) 15(-5,-2.125) 16(-5,2.125) 17(-3,-2.125) 18(-3,2.125) 19(-1,-2.125) 20(-1,2.125) 21(1,-2.125) 22(1,2.125) 23(3,-2.125) 24(3,2.125) 25(5,-2.125) 26(5,2.125) 27(7,-2.125) 28(7,2.125) 29(9,-2.125) 30(9,2.125) 31(11,-2.125) 32(11,2.125) 33(13,-2.125) 34(13,2.125) 35(15,-2.125) 36(15,2.125) 37(17,-2.125) 38(17,2.125) 39(19,-2.125) 40(19,2.125)
  round 1 hole 1: Un1(-18,0) Un2(18,0)
F.SilkS:
  lines w0.254: -19.76,-3.26 -21.435,-3.26 -21.435,3.26 -19.76,3.26 ; -18.24,-3.26 -17.76,-3.26 ; -18.24,3.26 -17.76,3.26 ; -16.24,-3.26 -15.76,-3.26 ; -16.24,3.26 -15.76,3.26 ; -14.24,-3.26 -13.76,-3.26 ; -14.24,3.26 -13.76,3.26 ; -12.24,-3.26 -11.76,-3.26 ; -12.24,3.26 -11.76,3.26 ; -10.24,-3.26 -9.76,-3.26 ; -10.24,3.26 -9.76,3.26 ; -8.24,-3.26 -7.76,-3.26 ; -8.24,3.26 -7.76,3.26 ; -6.24,-3.26 -5.76,-3.26 ; -6.24,3.26 -5.76,3.26 ; -4.24,-3.26 -3.76,-3.26 ; -4.24,3.26 -3.76,3.26 ; -2.24,-3.26 -1.76,-3.26 ; -2.24,3.26 -1.76,3.26 ; -0.24,-3.26 0.24,-3.26 ; -0.24,3.26 0.24,3.26 ; 1.76,-3.26 2.24,-3.26 ; 1.76,3.26 2.24,3.26 ; 3.76,-3.26 4.24,-3.26 ; 3.76,3.26 4.24,3.26 ; 5.76,-3.26 6.24,-3.26 ; 5.76,3.26 6.24,3.26 ; 7.76,-3.26 8.24,-3.26 ; 7.76,3.26 8.24,3.26 ; 9.76,-3.26 10.24,-3.26 ; 9.76,3.26 10.24,3.26 ; 11.76,-3.26 12.24,-3.26 ; 11.76,3.26 12.24,3.26 ; 13.76,-3.26 14.24,-3.26 ; 13.76,3.26 14.24,3.26 ; 15.76,-3.26 16.24,-3.26 ; 15.76,3.26 16.24,3.26 ; 17.76,-3.26 18.24,-3.26 ; 17.76,3.26 18.24,3.26 ; 19.76,-3.26 21.435,-3.26 21.435,3.26 19.76,3.26 ; -19.433,-4.525 -18.567,-4.525 -19,-3.775 -19.433,-4.525
Top Assembly:
  lines w0.254: -21.325,-1.125 -20.425,-1.125 -20.425,-2.25 -20.075,-2.25 -20.075,-2.5 -1.25,-2.5 -1.25,-3.15 ; -21.325,0.125 -20.425,0.125 -20.425,2.25 20.425,2.25 20.425,1.125 21.325,1.125 ; -19.325,-3.15 -19,-2.5 -18.675,-3.15 ; 1.25,-3.15 1.25,-2.5 20.075,-2.5 20.075,-2.25 20.425,-2.25 20.425,-0.125 21.325,-0.125 ; -21.325,-3.15 21.325,-3.15 21.325,3.15 -21.325,3.15 -21.325,-3.15
  text "'.Designator'" at -4.047,-0.84 h1
Top Courtyard:
  lines w0.254: -21.83,-4 21.83,-4 21.83,4 -21.83,4 -21.83,-4
Top Designator:
  text ".Designator" at -7.618,-0.77 h1.52

## Molex_8783242xx_2x21_P2.0mm_Header_Vertical_Polarized [mm]
pads (42):
  rrect25% 1x2.75 smd: 1(-20,-2.125) 2(-20,2.125) 3(-18,-2.125) 4(-18,2.125) 5(-16,-2.125) 6(-16,2.125) 7(-14,-2.125) 8(-14,2.125) 9(-12,-2.125) 10(-12,2.125) 11(-10,-2.125) 12(-10,2.125) 13(-8,-2.125) 14(-8,2.125) 15(-6,-2.125) 16(-6,2.125) 17(-4,-2.125) 18(-4,2.125) 19(-2,-2.125) 20(-2,2.125) 21(0,-2.125) 22(0,2.125) 23(2,-2.125) 24(2,2.125) 25(4,-2.125) 26(4,2.125) 27(6,-2.125) 28(6,2.125) 29(8,-2.125) 30(8,2.125) 31(10,-2.125) 32(10,2.125) 33(12,-2.125) 34(12,2.125) 35(14,-2.125) 36(14,2.125) 37(16,-2.125) 38(16,2.125) 39(18,-2.125) 40(18,2.125) 41(20,-2.125) 42(20,2.125)
F.SilkS:
  lines w0.254: -20.76,-3.26 -22.435,-3.26 -22.435,3.26 -20.76,3.26 ; -19.24,-3.26 -18.76,-3.26 ; -19.24,3.26 -18.76,3.26 ; -17.24,-3.26 -16.76,-3.26 ; -17.24,3.26 -16.76,3.26 ; -15.24,-3.26 -14.76,-3.26 ; -15.24,3.26 -14.76,3.26 ; -13.24,-3.26 -12.76,-3.26 ; -13.24,3.26 -12.76,3.26 ; -11.24,-3.26 -10.76,-3.26 ; -11.24,3.26 -10.76,3.26 ; -9.24,-3.26 -8.76,-3.26 ; -9.24,3.26 -8.76,3.26 ; -7.24,-3.26 -6.76,-3.26 ; -7.24,3.26 -6.76,3.26 ; -5.24,-3.26 -4.76,-3.26 ; -5.24,3.26 -4.76,3.26 ; -3.24,-3.26 -2.76,-3.26 ; -3.24,3.26 -2.76,3.26 ; -1.24,-3.26 -0.76,-3.26 ; -1.24,3.26 -0.76,3.26 ; 0.76,-3.26 1.24,-3.26 ; 0.76,3.26 1.24,3.26 ; 2.76,-3.26 3.24,-3.26 ; 2.76,3.26 3.24,3.26 ; 4.76,-3.26 5.24,-3.26 ; 4.76,3.26 5.24,3.26 ; 6.76,-3.26 7.24,-3.26 ; 6.76,3.26 7.24,3.26 ; 8.76,-3.26 9.24,-3.26 ; 8.76,3.26 9.24,3.26 ; 10.76,-3.26 11.24,-3.26 ; 10.76,3.26 11.24,3.26 ; 12.76,-3.26 13.24,-3.26 ; 12.76,3.26 13.24,3.26 ; 14.76,-3.26 15.24,-3.26 ; 14.76,3.26 15.24,3.26 ; 16.76,-3.26 17.24,-3.26 ; 16.76,3.26 17.24,3.26 ; 18.76,-3.26 19.24,-3.26 ; 18.76,3.26 19.24,3.26 ; 20.76,-3.26 22.435,-3.26 22.435,3.26 20.76,3.26 ; -20.433,-4.525 -19.567,-4.525 -20,-3.775 -20.433,-4.525
Top Assembly:
  lines w0.254: -22.325,-1.125 -21.425,-1.125 -21.425,-2.25 -21.075,-2.25 -21.075,-2.5 -1.25,-2.5 -1.25,-3.15 ; -22.325,0.125 -21.425,0.125 -21.425,2.25 21.425,2.25 21.425,1.125 22.325,1.125 ; -20.325,-3.15 -20,-2.5 -19.675,-3.15 ; 1.25,-3.15 1.25,-2.5 21.075,-2.5 21.075,-2.25 21.425,-2.25 21.425,-0.125 22.325,-0.125 ; -22.325,-3.15 22.325,-3.15 22.325,3.15 -22.325,3.15 -22.325,-3.15
  text "'.Designator'" at -4.047,-0.84 h1
Top Courtyard:
  lines w0.254: -22.83,-4 22.83,-4 22.83,4 -22.83,4 -22.83,-4
Top Designator:
  text ".Designator" at -7.618,-0.77 h1.52

## Molex_8783242xx_2x21_P2.0mm_Header_Vertical_Polarized_MountingPegs [mm]
pads (44):
  rrect25% 1x2.75 smd: 1(-20,-2.125) 2(-20,2.125) 3(-18,-2.125) 4(-18,2.125) 5(-16,-2.125) 6(-16,2.125) 7(-14,-2.125) 8(-14,2.125) 9(-12,-2.125) 10(-12,2.125) 11(-10,-2.125) 12(-10,2.125) 13(-8,-2.125) 14(-8,2.125) 15(-6,-2.125) 16(-6,2.125) 17(-4,-2.125) 18(-4,2.125) 19(-2,-2.125) 20(-2,2.125) 21(0,-2.125) 22(0,2.125) 23(2,-2.125) 24(2,2.125) 25(4,-2.125) 26(4,2.125) 27(6,-2.125) 28(6,2.125) 29(8,-2.125) 30(8,2.125) 31(10,-2.125) 32(10,2.125) 33(12,-2.125) 34(12,2.125) 35(14,-2.125) 36(14,2.125) 37(16,-2.125) 38(16,2.125) 39(18,-2.125) 40(18,2.125) 41(20,-2.125) 42(20,2.125)
  round 1 hole 1: Un1(-19,0) Un2(19,0)
F.SilkS:
  lines w0.254: -20.76,-3.26 -22.435,-3.26 -22.435,3.26 -20.76,3.26 ; -19.24,-3.26 -18.76,-3.26 ; -19.24,3.26 -18.76,3.26 ; -17.24,-3.26 -16.76,-3.26 ; -17.24,3.26 -16.76,3.26 ; -15.24,-3.26 -14.76,-3.26 ; -15.24,3.26 -14.76,3.26 ; -13.24,-3.26 -12.76,-3.26 ; -13.24,3.26 -12.76,3.26 ; -11.24,-3.26 -10.76,-3.26 ; -11.24,3.26 -10.76,3.26 ; -9.24,-3.26 -8.76,-3.26 ; -9.24,3.26 -8.76,3.26 ; -7.24,-3.26 -6.76,-3.26 ; -7.24,3.26 -6.76,3.26 ; -5.24,-3.26 -4.76,-3.26 ; -5.24,3.26 -4.76,3.26 ; -3.24,-3.26 -2.76,-3.26 ; -3.24,3.26 -2.76,3.26 ; -1.24,-3.26 -0.76,-3.26 ; -1.24,3.26 -0.76,3.26 ; 0.76,-3.26 1.24,-3.26 ; 0.76,3.26 1.24,3.26 ; 2.76,-3.26 3.24,-3.26 ; 2.76,3.26 3.24,3.26 ; 4.76,-3.26 5.24,-3.26 ; 4.76,3.26 5.24,3.26 ; 6.76,-3.26 7.24,-3.26 ; 6.76,3.26 7.24,3.26 ; 8.76,-3.26 9.24,-3.26 ; 8.76,3.26 9.24,3.26 ; 10.76,-3.26 11.24,-3.26 ; 10.76,3.26 11.24,3.26 ; 12.76,-3.26 13.24,-3.26 ; 12.76,3.26 13.24,3.26 ; 14.76,-3.26 15.24,-3.26 ; 14.76,3.26 15.24,3.26 ; 16.76,-3.26 17.24,-3.26 ; 16.76,3.26 17.24,3.26 ; 18.76,-3.26 19.24,-3.26 ; 18.76,3.26 19.24,3.26 ; 20.76,-3.26 22.435,-3.26 22.435,3.26 20.76,3.26 ; -20.433,-4.525 -19.567,-4.525 -20,-3.775 -20.433,-4.525
Top Assembly:
  lines w0.254: -22.325,-1.125 -21.425,-1.125 -21.425,-2.25 -21.075,-2.25 -21.075,-2.5 -1.25,-2.5 -1.25,-3.15 ; -22.325,0.125 -21.425,0.125 -21.425,2.25 21.425,2.25 21.425,1.125 22.325,1.125 ; -20.325,-3.15 -20,-2.5 -19.675,-3.15 ; 1.25,-3.15 1.25,-2.5 21.075,-2.5 21.075,-2.25 21.425,-2.25 21.425,-0.125 22.325,-0.125 ; -22.325,-3.15 22.325,-3.15 22.325,3.15 -22.325,3.15 -22.325,-3.15
  text "'.Designator'" at -4.047,-0.84 h1
Top Courtyard:
  lines w0.254: -22.83,-4 22.83,-4 22.83,4 -22.83,4 -22.83,-4
Top Designator:
  text ".Designator" at -7.618,-0.77 h1.52

## Molex_8783244xx_2x22_P2.0mm_Header_Vertical_Polarized [mm]
pads (44):
  rrect25% 1x2.75 smd: 1(-21,-2.125) 2(-21,2.125) 3(-19,-2.125) 4(-19,2.125) 5(-17,-2.125) 6(-17,2.125) 7(-15,-2.125) 8(-15,2.125) 9(-13,-2.125) 10(-13,2.125) 11(-11,-2.125) 12(-11,2.125) 13(-9,-2.125) 14(-9,2.125) 15(-7,-2.125) 16(-7,2.125) 17(-5,-2.125) 18(-5,2.125) 19(-3,-2.125) 20(-3,2.125) 21(-1,-2.125) 22(-1,2.125) 23(1,-2.125) 24(1,2.125) 25(3,-2.125) 26(3,2.125) 27(5,-2.125) 28(5,2.125) 29(7,-2.125) 30(7,2.125) 31(9,-2.125) 32(9,2.125) 33(11,-2.125) 34(11,2.125) 35(13,-2.125) 36(13,2.125) 37(15,-2.125) 38(15,2.125) 39(17,-2.125) 40(17,2.125) 41(19,-2.125) 42(19,2.125) 43(21,-2.125) 44(21,2.125)
F.SilkS:
  lines w0.254: -21.76,-3.26 -23.435,-3.26 -23.435,3.26 -21.76,3.26 ; -20.24,-3.26 -19.76,-3.26 ; -20.24,3.26 -19.76,3.26 ; -18.24,-3.26 -17.76,-3.26 ; -18.24,3.26 -17.76,3.26 ; -16.24,-3.26 -15.76,-3.26 ; -16.24,3.26 -15.76,3.26 ; -14.24,-3.26 -13.76,-3.26 ; -14.24,3.26 -13.76,3.26 ; -12.24,-3.26 -11.76,-3.26 ; -12.24,3.26 -11.76,3.26 ; -10.24,-3.26 -9.76,-3.26 ; -10.24,3.26 -9.76,3.26 ; -8.24,-3.26 -7.76,-3.26 ; -8.24,3.26 -7.76,3.26 ; -6.24,-3.26 -5.76,-3.26 ; -6.24,3.26 -5.76,3.26 ; -4.24,-3.26 -3.76,-3.26 ; -4.24,3.26 -3.76,3.26 ; -2.24,-3.26 -1.76,-3.26 ; -2.24,3.26 -1.76,3.26 ; -0.24,-3.26 0.24,-3.26 ; -0.24,3.26 0.24,3.26 ; 1.76,-3.26 2.24,-3.26 ; 1.76,3.26 2.24,3.26 ; 3.76,-3.26 4.24,-3.26 ; 3.76,3.26 4.24,3.26 ; 5.76,-3.26 6.24,-3.26 ; 5.76,3.26 6.24,3.26 ; 7.76,-3.26 8.24,-3.26 ; 7.76,3.26 8.24,3.26 ; 9.76,-3.26 10.24,-3.26 ; 9.76,3.26 10.24,3.26 ; 11.76,-3.26 12.24,-3.26 ; 11.76,3.26 12.24,3.26 ; 13.76,-3.26 14.24,-3.26 ; 13.76,3.26 14.24,3.26 ; 15.76,-3.26 16.24,-3.26 ; 15.76,3.26 16.24,3.26 ; 17.76,-3.26 18.24,-3.26 ; 17.76,3.26 18.24,3.26 ; 19.76,-3.26 20.24,-3.26 ; 19.76,3.26 20.24,3.26 ; 21.76,-3.26 23.435,-3.26 23.435,3.26 21.76,3.26 ; -21.433,-4.525 -20.567,-4.525 -21,-3.775 -21.433,-4.525
Top Assembly:
  lines w0.254: -23.325,-1.125 -22.425,-1.125 -22.425,-2.25 -22.075,-2.25 -22.075,-2.5 -1.25,-2.5 -1.25,-3.15 ; -23.325,0.125 -22.425,0.125 -22.425,2.25 22.425,2.25 22.425,1.125 23.325,1.125 ; -21.325,-3.15 -21,-2.5 -20.675,-3.15 ; 1.25,-3.15 1.25,-2.5 22.075,-2.5 22.075,-2.25 22.425,-2.25 22.425,-0.125 23.325,-0.125 ; -23.325,-3.15 23.325,-3.15 23.325,3.15 -23.325,3.15 -23.325,-3.15
  text "'.Designator'" at -4.047,-0.84 h1
Top Courtyard:
  lines w0.254: -23.83,-4 23.83,-4 23.83,4 -23.83,4 -23.83,-4
Top Designator:
  text ".Designator" at -7.618,-0.77 h1.52